# Altium footprint library SM_PTCFUSE_1206.PcbLib: 1 footprints
Each footprint in its own frame and in the unit in brackets; x right, y up, seen from the top. Pads: shape width x height; smd on the part's side, far side on the other; paste and mask are expansions set on the pad; w line width, h text height; cw(c..) or ccw(c..) is an arc to the next point about the centre after c.
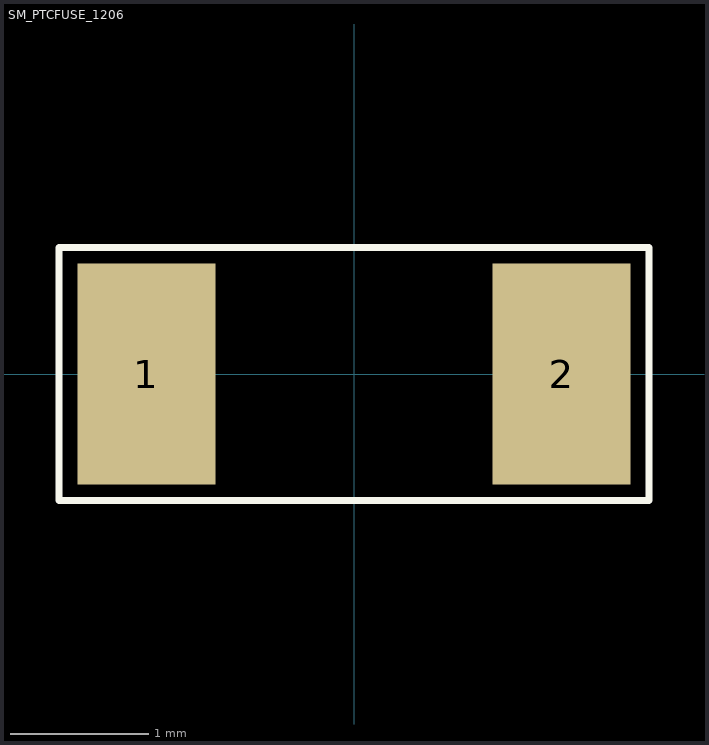
[diagram p0: the footprint, top view; thin cyan lines are the x and y axes]

## SM_PTCFUSE_1206 [mm]
pads (2):
  rect 1x1.6 smd: 1(-1.5,0) 2(1.5,0)
Top Overlay:
  lines w0.05: -2.134,-0.914 2.134,-0.914 2.134,0.914 -2.134,0.914 -2.134,-0.914
3D body "mf-nsml260.stp": height 0.63, standoff 0, extent -1.625,-0.8 1.625,0.8